# EAGLE library part MAB5SH (library midi-connector)
Female CONNECTOR 5 pins 90 deg. with shield, horizontal (DIN 41524)
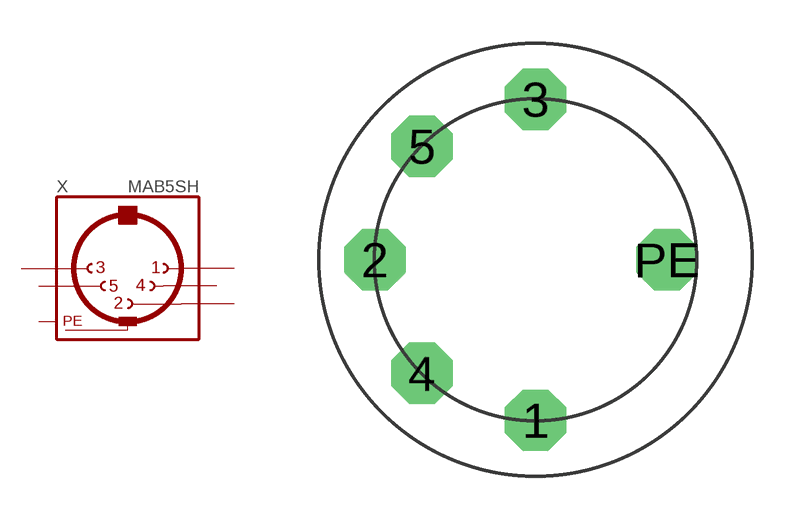
[diagram p0: symbol with the pads of MAB5SH; footprint MAB5SH]

Designator prefix X

## MAB5SH (OC_FARNELL: 809883; OC_NEWARK: unknown)  [MAB5SH]
1  1  pas
2  2  pas
3  3  pas
4  4  pas
5  5  pas
PE  PE  pwr

## Footprint MAB5SH (pad centres in mm)
Female CONNECTOR 5 pins 90 deg. with shield, horizontal (DIN 41524)
drill 1.4 octagon: 1 0,-5.5; 2 -5.5,0; 3 0,5.5; 4 -3.889,-3.889; 5 -3.889,3.889; PE 4.5,0